# EAGLE library part DS2408 (library 1wire)
8-Channel Addressable Switch This is a general purpose I/O multiplier. The PIO pins P0..P7 are inputs/open drain outputs and can be used in a mixed I/O fashion. Output sink capability is appr. 4mA. Each input state can be read but changing input signals additionally trigger the egde detector for this input. The edge detector state can be read back, too. The RSTZ pin can be configured by software as a –STROBE output (default) or as the common edge detector –RESET input. In the latter mode, the output pins are all set to floating on a –RESET trigger, too. Author: Jan Kandziora <jjj@gmx.de>
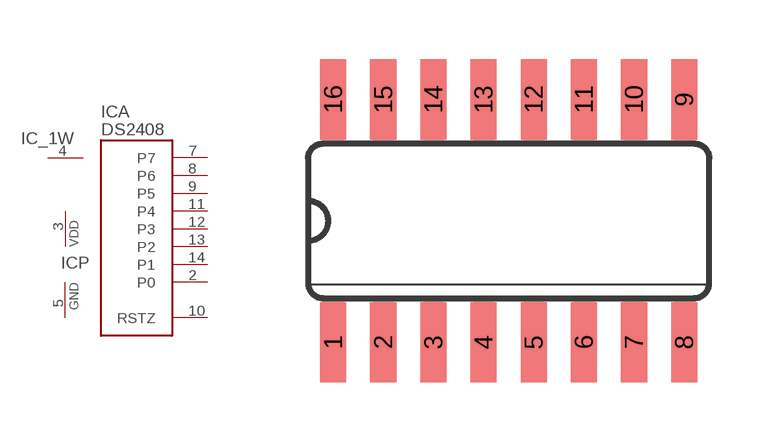
[diagram p0: symbol with the pads of SO16; footprint SO16]

Designator prefix IC; gates A=DS2408 _1W=1W P=VDD-GND

## DS2408S  [SO16]
2  A:P0  oc
3  P:VDD  pwr
4  _1W:1W  pwr
5  P:GND  pwr
7  A:P7  oc
8  A:P6  oc
9  A:P5  oc
10  A:RSTZ  oc
11  A:P4  oc
12  A:P3  oc
13  A:P2  oc
14  A:P1  oc

## Footprint SO16 (pad centres in mm)
Small Outline Package
smd 0.66 x 2.032: 1 -4.445,-3.073; 2 -3.175,-3.073; 3 -1.905,-3.073; 4 -0.635,-3.073; 5 0.635,-3.073; 6 1.905,-3.073; 7 3.175,-3.073; 8 4.445,-3.073; 9 4.445,3.073; 10 3.175,3.073; 11 1.905,3.073; 12 0.635,3.073; 13 -0.635,3.073; 14 -1.905,3.073; 15 -3.175,3.073; 16 -4.445,3.073